# EAGLE library part ATMEGA2564RFR2 (library SparkFun-RF)
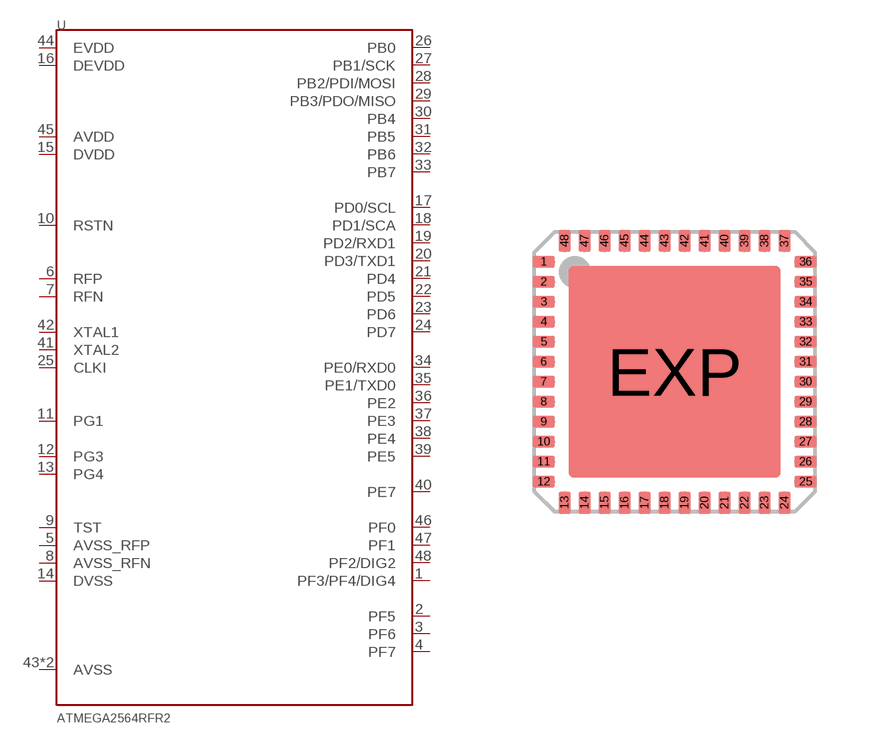
[diagram p64: symbol with the pads of QFN48; footprint QFN48]

Designator prefix -

## ATMEGA2564RFR2  [QFN48]
1  PF3/PF4/DIG4
2  PF5
3  PF6
4  PF7
5  AVSS_RFP
6  RFP
7  RFN
8  AVSS_RFN
9  TST
10  RSTN
11  PG1
12  PG3
13  PG4
14  DVSS
15  DVDD
16  DEVDD
17  PD0/SCL
18  PD1/SCA
19  PD2/RXD1
20  PD3/TXD1
21  PD4
22  PD5
23  PD6
24  PD7
25  CLKI
26  PB0
27  PB1/SCK
28  PB2/PDI/MOSI
29  PB3/PDO/MISO
30  PB4
31  PB5
32  PB6
33  PB7
34  PE0/RXD0
35  PE1/TXD0
36  PE2
37  PE3
38  PE4
39  PE5
40  PE7
41  XTAL2
42  XTAL1
43  AVSS
44  EVDD
45  AVDD
46  PF0
47  PF1
48  PF2/DIG2
EXP  AVSS

## Footprint QFN48 (pad centres in mm)
48-pin QFN 7 x 7 mm LF48 48 Quad Flat Package No Leads Source: http://v4.cypress.com/cfuploads/img/products/cywusb6934.pdf
smd 0.55 x 0.3: 1 -3.275,2.75; 2 -3.275,2.25; 3 -3.275,1.75; 4 -3.275,1.25; 5 -3.275,0.75; 6 -3.275,0.25; 7 -3.275,-0.25; 8 -3.275,-0.75; 9 -3.275,-1.25; 10 -3.275,-1.75; 11 -3.275,-2.25; 12 -3.275,-2.75; 25 3.275,-2.75; 26 3.275,-2.25; 27 3.275,-1.75; 28 3.275,-1.25; 29 3.275,-0.75; 30 3.275,-0.25; 31 3.275,0.25; 32 3.275,0.75; 33 3.275,1.25; 34 3.275,1.75; 35 3.275,2.25; 36 3.275,2.75
smd 0.3 x 0.55: 13 -2.75,-3.275; 14 -2.25,-3.275; 15 -1.75,-3.275; 16 -1.25,-3.275; 17 -0.75,-3.275; 18 -0.25,-3.275; 19 0.25,-3.275; 20 0.75,-3.275; 21 1.25,-3.275; 22 1.75,-3.275; 23 2.25,-3.275; 24 2.75,-3.275; 37 2.75,3.275; 38 2.25,3.275; 39 1.75,3.275; 40 1.25,3.275; 41 0.75,3.275; 42 0.25,3.275; 43 -0.25,3.275; 44 -0.75,3.275; 45 -1.25,3.275; 46 -1.75,3.275; 47 -2.25,3.275; 48 -2.75,3.275
smd 5.309 x 5.309: EXP 0,0